# Altium schematic symbol library Control_Board.SCHLIB: 22 symbols
Pins are listed as number, name and electrical type; pins without a type are passive.

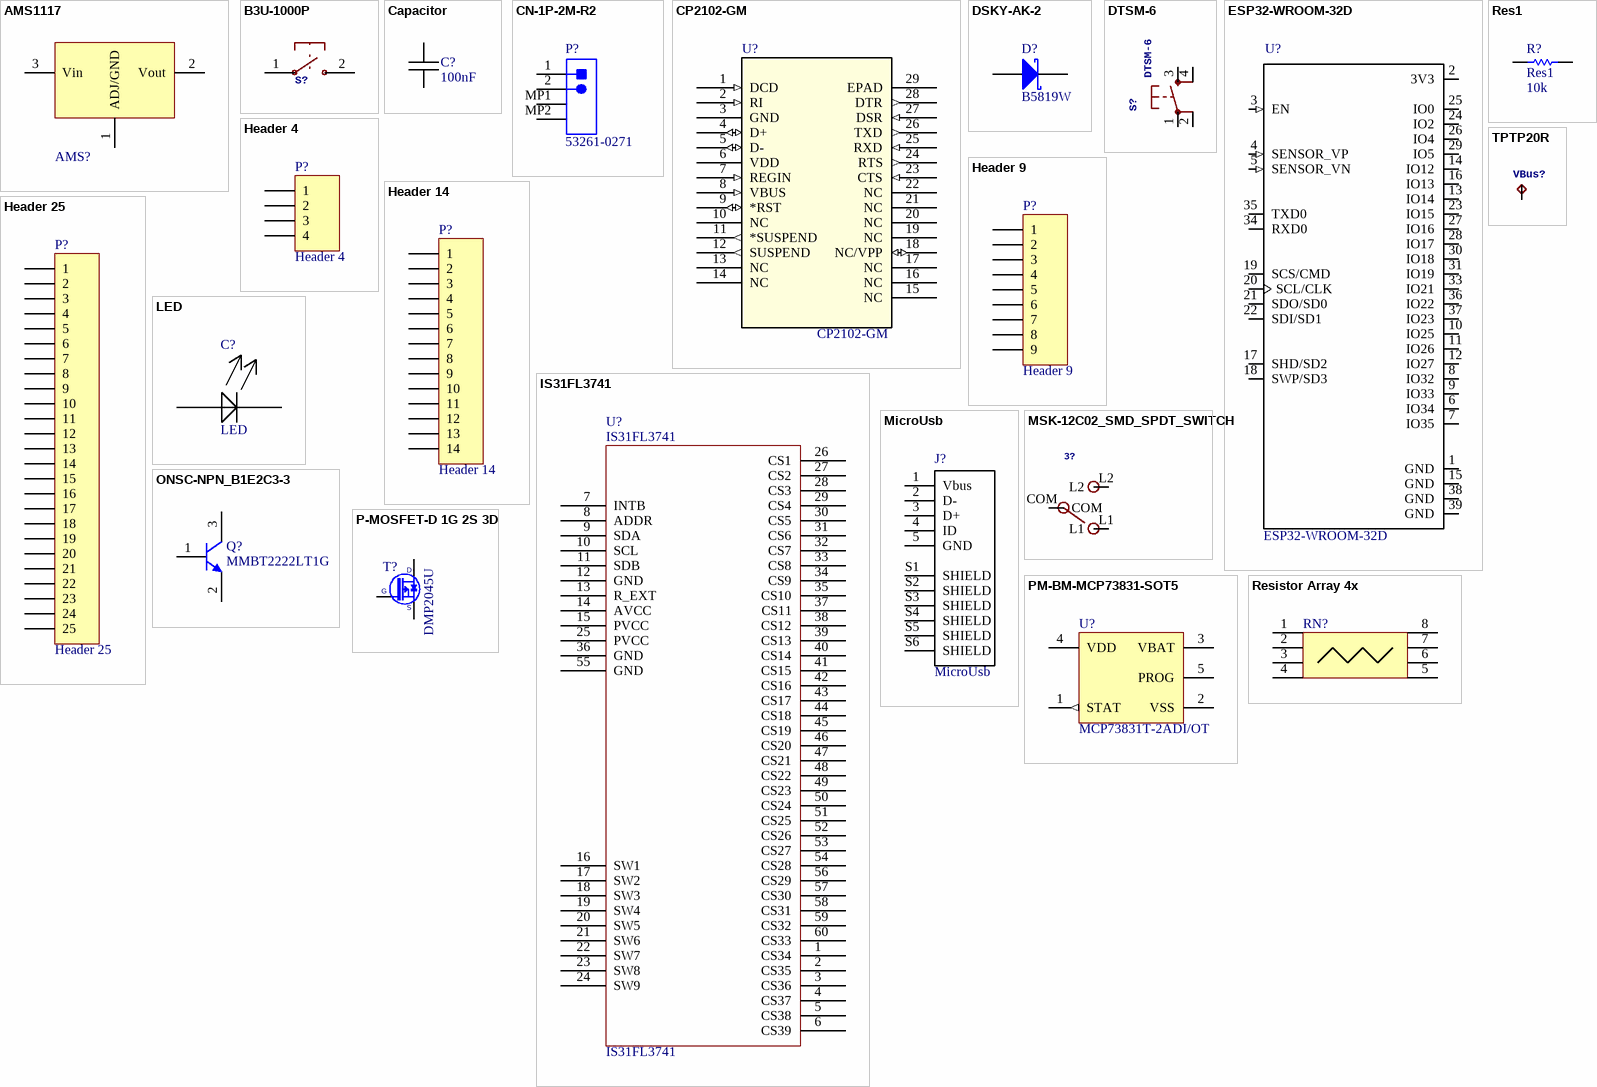
[diagram p0: symbols AMS1117 to TPTP20R]

## AMS1117
designator AMS?  (value not drawn)
LDO 3.3V/5V/12V
footprint SOT-223-3
pins: 1 ADJ/GND, 2 Vout, 3 Vin

## B3U-1000P
designator S?, comment Switch  (value not drawn)
MANUFACTURER: Omron; MPN: B3U-1000P; DIGIKEY: SW1020CT-ND
footprint PUSH_SMD_3x4
pins: 1 P$1, 2 P$2

## Capacitor
designator C?, comment 100nF
footprint C 0603 / 1608 (Capacitor 0603 / 1608 (1.6 x 0.8 mm))
pins: 1, 2 1

## CN-1P-2M-R2
designator P?, comment 53261-0271
PicoBlade(TM) Header, Right Angle, -40 to 85 degC, 2-Pin SMD, RoHS, Tape and Reel; Current - Max: 1A; Brand: Molex; Voltage Rating: 125V; Number of Positions: 2; Pitch: 1.25mm; Package Version: Rev. H, 11/2014; Factory Pack Quantity: 1000; Datasheet URL: http://www.molex.com/webdocs/datasheets/pdf/en-us/0532610271_PCB_HEADERS.pdf; Datasheet Version: 03/2016; Housing Material: Thermoplastic; RoHS: Details; Product Type: Headers; Number of Rows: 1; Termination Style: SMD; Mounting Technology: SurfaceMount; Number of Positions / Contacts: 2; Package URL: http://www.molex.com/pdm_docs/sd/532610271_sd.pdf; Mounting Angle: Right; Mounting Style: SMD/SMT; Manufacturer: Molex; Product Category: 1.25mmConnectors; Tradename: PicoBlade; Voltage - Max: 125V; Manufacturer URL: http://www.molex.com/; Series: 53261; Package Description: 2-Leads Header, Pitch 1.25 mm, Mated Height 3.4 mm; Package Reference: 53261-0271; Current Rating: 1A; Contact Plating: Tin; Contact Material: PhosphorBronze; Type: Shrouded; Packaging: Reel
footprint MOLX-53261-0271_V (Header, 2-Leads, Pitch 1.25mm)
pins: 1, 2, MP1, MP2

## CP2102-GM
designator U?
No Description Available; Vendor: Silicon Labs; Built_By: EMA_UL_Team; Manufacturer_Part_Number: CP2102-GM; Copyright: Copyright (C) 2018 Accelerated Designs. All rights reserved; RefDes: RefDes; Type: DEV; Value: Value
footprint QFN28_5X5
pins: 1 DCD (in), 2 RI (in), 3 GND (power), 4 D+ (io), 5 D- (io), 6 VDD (power), 7 REGIN (in), 8 VBUS (in), 9 *RST (io), 10 NC, 11 *SUSPEND (out), 12 SUSPEND (out), 13 NC, 14 NC, 15 NC, 16 NC, 17 NC, 18 NC/VPP (io), 19 NC, 20 NC, 21 NC, 22 NC, 23 CTS (in), 24 RTS (out), 25 RXD (in), 26 TXD (out), 27 DSR (in), 28 DTR (out), 29 EPAD

## DSKY-AK-2
designator D?, comment B5819W
Schottky Barrier Rectifier, 1 A, 40 Vrm, -65 to 125 degC, 2-Pin SOD123, RoHS, Tape and Reel; Manufacturer: Micro Commercial Components; Package Description: 2-Pin Small Outline Diode, Body 2.7 x 1.6 mm, Height 1.35 mm; Datasheet URL: http://www.mccsemi.com/up_pdf/B5817W-B5819W(SOD-123).pdf; Manufacturer URL: http://www.mccsemi.com/; Package Reference: SOD123; Package URL: http://www.mccsemi.com/up_pdf/1N4448W(SOD-123).pdf; Datasheet Version: Rev. B, 01/2013
footprint MCC-SOD123_V (SOD123, 2-Leads, Body 2.7x1.6mm, Height 1.35mm)
pins: 1 A, 2 K

## DTSM-6
designator S?
footprint DTSM-6
pins: 1, 2, 3, 4

## ESP32-WROOM-32D
designator U?
IC: SoC; GPIO, I2C, I2S, IR, SD, SDIO, SPI, UART; 2.7Ã·3.6VDC; 20dBm; MF: Espressif Systems; Availability: Warning; SnapEDA_Link: https://www.snapeda.com/parts/ESP32-WROOM-32D/Espressif%20Systems/view-part/?ref=snap; MP: ESP32-WROOM-32D; Price: 3.98 USD; Package: Module Espressif Systems; Value: *
footprint MODULE_ESP32-WROOM-32D
pins: 1 GND (power), 2 3V3 (power), 3 EN (in), 4 SENSOR_VP (in), 5 SENSOR_VN (in), 6 IO34 (io), 7 IO35 (io), 8 IO32 (io), 9 IO33 (io), 10 IO25 (io), 11 IO26 (io), 12 IO27 (io), 13 IO14 (io), 14 IO12 (io), 15 GND (power), 16 IO13 (io), 17 SHD/SD2 (io), 18 SWP/SD3 (io), 19 SCS/CMD (io), 20 SCL/CLK (io), 21 SDO/SD0 (io), 22 SDI/SD1 (io), 23 IO15 (io), 24 IO2 (io), 25 IO0 (io), 26 IO4 (io), 27 IO16 (io), 28 IO17 (io), 29 IO5 (io), 30 IO18 (io), 31 IO19 (io), 33 IO21 (io), 34 RXD0 (io), 35 TXD0 (io), 36 IO22 (io), 37 IO23 (io), 38 GND (power), 39 GND (power)

## Header 4
designator P?
Header, 4-Pin; LatestRevisionDate: 17-Jul-2002; LatestRevisionNote: Re-released for DXP Platform.; Publisher: Altium Limited
footprint HDR1X4 (Connector; Header; 4 Position)
signal-integrity model Connector
pins: 1, 2, 3, 4

## Header 9
designator P?
Header, 9-Pin; LatestRevisionDate: 17-Jul-2002; LatestRevisionNote: Re-released for DXP Platform.; Publisher: Altium Limited
footprint HDR1X9 (Connector; Header; 9 Position)
signal-integrity model Connector
pins: 1, 2, 3, 4, 5, 6, 7, 8, 9

## Header 14
designator P?
Header, 14-Pin; LatestRevisionDate: 17-Jul-2002; LatestRevisionNote: Re-released for DXP Platform.; Publisher: Altium Limited
footprint HDR1X14 (Connector; Header; 14 Position)
signal-integrity model Connector
pins: 1, 2, 3, 4, 5, 6, 7, 8, 9, 10, 11, 12, 13, 14

## Header 25
designator P?
Header, 25-Pin; LatestRevisionDate: 17-Jul-2002; LatestRevisionNote: Re-released for DXP Platform.; Publisher: Altium Limited
footprint HDR1X25 (Connector; Header; 25 Position)
signal-integrity model Connector
pins: 1, 2, 3, 4, 5, 6, 7, 8, 9, 10, 11, 12, 13, 14, 15, 16, 17, 18, 19, 20, 21, 22, 23, 24, 25

## IS31FL3741
designator U?
footprint QFN40P700X700X80-61N
pins: 1 CS34, 2 CS35, 3 CS36, 4 CS37, 5 CS38, 6 CS39, 7 INTB, 8 ADDR, 9 SDA, 10 SCL, 11 SDB, 12 GND, 13 R_EXT, 14 AVCC, 15 PVCC, 16 SW1, 17 SW2, 18 SW3, 19 SW4, 20 SW5, 21 SW6, 22 SW7, 23 SW8, 24 SW9, 25 PVCC, 26 CS1, 27 CS2, 28 CS3, 29 CS4, 30 CS5, 31 CS6, 32 CS7, 33 CS8, 34 CS9, 35 CS10, 36 GND, 37 CS11, 38 CS12, 39 CS13, 40 CS14, 41 CS15, 42 CS16, 43 CS17, 44 CS18, 45 CS19, 46 CS20, 47 CS21, 48 CS22, 49 CS23, 50 CS24, 51 CS25, 52 CS26, 53 CS27, 54 CS28, 55 GND, 56 CS29, 57 CS30, 58 CS31, 59 CS32, 60 CS33

## LED
designator C?
footprint LED 0603(2)
pins: 1 +, 2 -

## MicroUsb
designator J?
10103594-0001LF / Conn Micro USB Type B RCP 5 POS 0.65mm Solder RA SMD 5 Terminal 1 Port T/R; MF: Amphenol ICC; Price: None; MP: 10103594-0001LF; Availability: Unavailable; SnapEDA_Link: https://www.snapeda.com/parts/10103594-0001LF/Amphenol%20ICC/view-part/?ref=snap; Package: None; Value: *
footprint FCI_10103594-0001LF_10103594-0001LF(Primary)
pins: 1 Vbus, 2 D-, 3 D+, 4 ID, 5 GND, S1 SHIELD, S2 SHIELD, S3 SHIELD, S4 SHIELD, S5 SHIELD, S6 SHIELD

## MSK-12C02_SMD_SPDT_SWITCH
designator 3?, comment Footprint of the VIMEX MSK-12C02 SPDT SMD Switch Created by mzst on 17-Jan-2016  (value not drawn)
footprint MSK-12C02
pins: COM, L1, L2

## ONSC-NPN_B1E2C3-3
designator Q?, comment MMBT2222LT1G
General Purpose Transistor, NPN, 0.6 A IC Continuous, 3-Pin SOT23, RoHS, Tape and Reel; Manufacturer: ON Semiconductor; PTM Max.: 0.225 W; HFE Max.: 300; HFE Min.: 100; V(BR) CEO: 30 V Min.; FT: 250 MHz; IC Continuous: 0.6 A; RoHS: TRUE; DatasheetVersion: Rev. 10; PackageVersion: Rev. AP; Polarity: NPN; PackageReference: SOT-23-3; PackageDescription: 3-Pin SOT23, Body 2.9 x 1.3 mm, Pitch 0.95 mm; ComponentLink1URL: http://www.onsemi.com/; ComponentLink2URL: http://www.onsemi.com/pub_link/Collateral/MMBT2222LT1-D.PDF; PartNumber: MMBT2222LT1G; ComponentLink3URL: http://www.onsemi.com/pub_link/Collateral/MMBT2222LT1-D.PDF; Mounting Technology: Surface Mount; ComponentLink3Description: Package Specification; ComponentLink1Description: Manufacturer URL; Packing: Tape and Reel; ComponentLink2Description: Datasheet
footprint ONSC-SOT-23-3-318-08_M (SOT23, 3-Leads, Body 3.04x1.4mm, Pitch 0.95mm, IPC Low Density)
footprint ONSC-SOT-23-3-318-08_L (SOT23, 3-Leads, Body 3.04x1.4mm, Pitch 0.95mm, IPC High Density)
footprint ONSC-SOT-23-3-318-08_N (SOT23, 3-Leads, Body 3.04x1.4mm, Pitch 0.95mm, IPC Medium Density)
pins: 1 B, 2 E, 3 C

## P-MOSFET-D 1G 2S 3D
designator T?, comment DMP2045U
P-CHANNEL MOSFET WITH DIODE; Part Number: Si2333CDS-T1-GE3; Part Description: -12V -5.1A P-Channel  TrenchFET® Power MOSFET; Manufacturer: VISHAY SILICONIX; PressFit: No; Bonding: No; Component Kind: Standard; Component Type: Standard; Device: Si2333CDS-T1-GE3; Footprint: SOT95P237X112-3N; PackageDescription: SOT, 0.95mm, pitch; 3 pin,1.30mm W X 2.92mm L X 1.12mm H body, IPC Medium Density; Manufacturer Part Number: Si2333CDS-T1-GE3; Pin Count: 3; Case: SOT23-3; Mounted: Yes; Socket: No; SMD: Yes; Sense: No; ComponentHeight: 1.12mm; HelpURL: \\cern.ch\dfs\Applications\Altium\Datasheets\Si2333CDS-T1-GE3.pdf; Author: CERN DEM JLC; CreateDate: 03/03/2011; LatestRevisionDate: 02/05/2011
footprint SOT95P237X112-3N
pins: 1 G, 2 S, 3 D

## PM-BM-MCP73831-SOT5
designator U?, comment MCP73831T-2ADI/OT
Miniature Single-Cell, Fully Integrated Li-Ion, Li-Polymer Charge Management Controller, 4.2V, 5-Pin SOT-23, Industrial Temperature, Tape and Reel; PackageVersion: revBB, Aug-2009; DatasheetVersion: revE, Sep-2008; PackageDescription: 5-Lead Plastic Small Outline Transistor (OT) [SOT-23]; PackageReference: SOT-23-OT5; Code_IPC: SOT23-5
footprint SOT-23-OT5_M (SOT23, 5-Leads, Body 2.9x1.6mm, Pitch 0.95mm, Lead Span 2.7mm, IPC Low Density)
footprint SOT-23-OT5_L (SOT23, 5-Leads, Body 2.9x1.6mm, Pitch 0.95mm, Lead Span 2.7mm, IPC High Density)
footprint SOT-23-OT5_N (SOT23, 5-Leads, Body 2.9x1.6mm, Pitch 0.95mm, Lead Span 2.7mm, IPC Medium Density)
pins: 1 STAT (out), 2 VSS (power), 3 VBAT (power), 4 VDD (power), 5 PROG

## Res1
designator R?  value 10k
Resistor; Published: 8-Jun-2000; LatestRevisionDate: 17-Jul-2002; LatestRevisionNote: Re-released for DXP Platform.; PackageReference: AXIAL-0.3; Publisher: Altium Limited; PackageDescription: Axial Device, Thru-Hole; 2 Leads; 0.3 in Pin Spacing
simulation model RESISTOR (Resistor)
signal-integrity model Res
footprint C 0603 / 1608 (Capacitor 0603 / 1608 (1.6 x 0.8 mm))
pins: 1, 2

## Resistor Array 4x
designator RN?, comment 742C083121JP  (value not drawn)
Res Thick Film Array 120 Ohm 5% 1/4W Â±200ppm/Â°C ISOL Molded 8-Pin 1206_4 X 0603_ Concave SMD Paper T/R; MF: CTS Resistor; Availability: Unavailable; SnapEDA_Link: https://www.snapeda.com/parts/742C083121JP/CTS%20Resistor%20Products/view-part/?ref=snap; Price: None; Package: 1206 CTS Components; MP: 742C083121JP; Value: *
footprint RESARRAY(4x0603)
pins: 1, 2, 3, 4, 5, 6, 7, 8

## TPTP20R
designator VBus?, comment Test pad  (value not drawn)
footprint TP20R
pins: TP